# Altium footprint library True Variant.PcbLib: 36 footprints (part 2 of 3)
Each footprint in its own frame and in the unit in brackets; x right, y up, seen from the top. Pads: shape width x height; smd on the part's side, far side on the other; paste and mask are expansions set on the pad; w line width, h text height; cw(c..) or ccw(c..) is an arc to the next point about the centre after c.
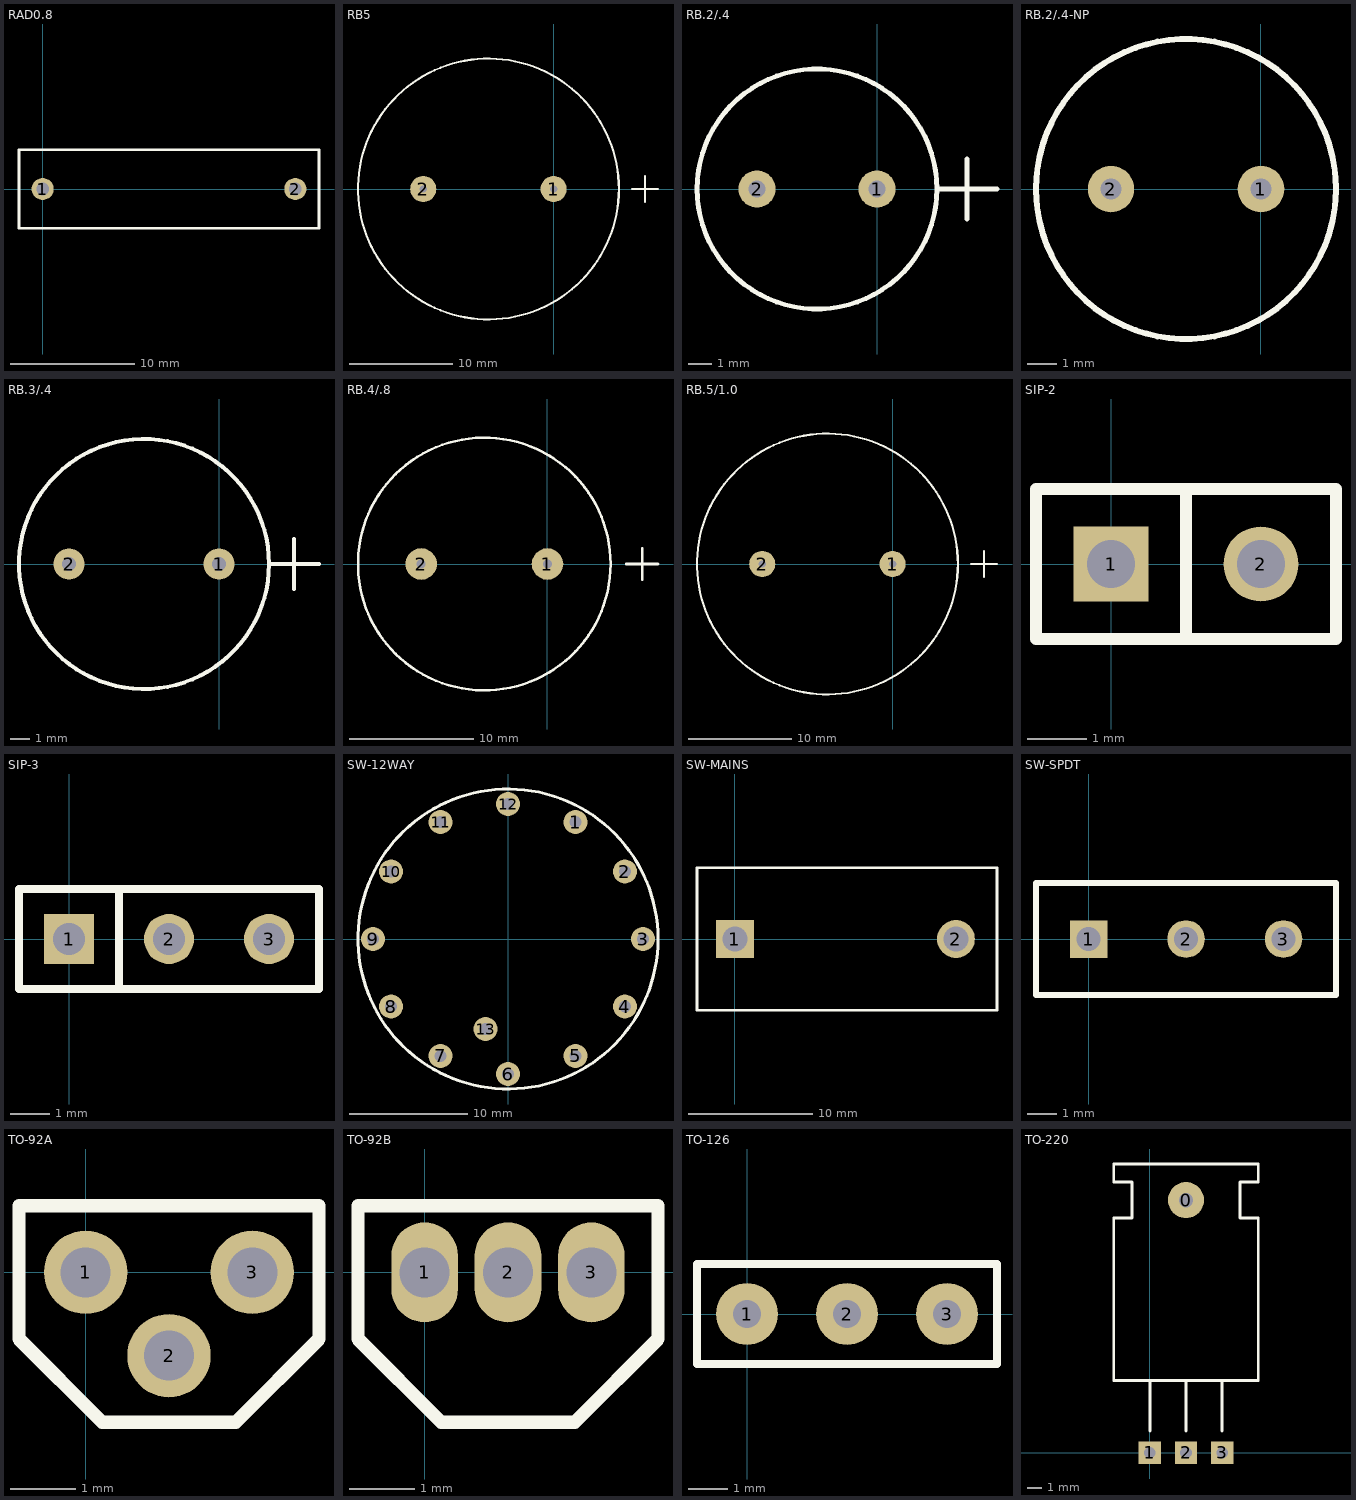
[diagram p1: the footprints below, top view; thin cyan lines are the x and y axes]

## RAD0.8 [mil]
pads (2):
  round 70 hole 40: 1(0,0) 2(800,0)
TopOverlay:
  lines w8: -75,-125 -75,125 875,125 875,-125 -75,-125

## RB5 [mil]
pads (2):
  round 100 hole 28: 1(0,0) 2(-500,0)
TopOverlay:
  circle w8: c-250,0 r500
  lines w8: 300,0 400,0 ; 350,-50 350,50
3D body: height 850, standoff 50, extent -749.99,-499.86 250.01,499.87

## RB.2/.4 [mil]
pads (2):
  round 62 hole 28: 1(0,0) 2(-200,0)
TopOverlay:
  circle w8: c-100,0 r200
  lines w8: 100,0 200,0 ; 150,-50 150,50

## RB.2/.4-NP [mil]
pads (2):
  round 62 hole 28: 1(0,0) 2(-200,0)
TopOverlay:
  circle w8: c-100,0 r200

## RB.3/.4 [mil]
pads (2):
  round 62 hole 28: 1(0,0) 2(-300,0)
TopOverlay:
  circle w8: c-150,0 r250
  lines w8: 100,0 200,0 ; 150,-50 150,50

## RB.4/.8 [mil]
pads (2):
  round 100 hole 28: 1(0,0) 2(-400,0)
TopOverlay:
  circle w8: c-200,0 r400
  lines w8: 250,0 350,0 ; 300,-50 300,50
3D body: height 850, standoff 50, extent -596.84,-399.2 200,399.22

## RB.5/1.0 [mil]
pads (2):
  round 100 hole 28: 1(0,0) 2(-500,0)
TopOverlay:
  circle w8: c-250,0 r500
  lines w8: 300,0 400,0 ; 350,-50 350,50
3D body: height 850, standoff 50, extent -749.98,-499.98 249.98,499.98

## SIP-2 [mil]
pads (2):
  rect 50x50 hole 32: 1(0,0)
  round 50 hole 32: 2(100,0)
TopOverlay:
  lines w8: 50,-50 50,50 ; -50,-50 150,-50 150,50 -50,50 -50,-50

## SIP-3 [mil]
pads (3):
  rect 50x50 hole 32: 1(0,0)
  round 50 hole 32: 2(100,0) 3(200,0)
TopOverlay:
  lines w8: 50,-50 50,50 ; -50,-50 -50,50 250,50 250,-50 -50,-50

## SW-12WAY [mil]
pads (13):
  round 80 hole 40: 1(225,389.71) 2(389.71,225) 3(450,0) 4(389.71,-225) 5(225,-389.71) 6(0,-450) 7(-225,-389.71) 8(-389.71,-225) 9(-450,0) 10(-389.71,225) 11(-225,389.71) 12(0,450) 13(-75,-300)
TopOverlay:
  circle w10: c0,0 r500

## SW-MAINS [mil]
pads (2):
  rect 120x120 hole 80: 1(0,0)
  round 120 hole 80: 2(700,0)
TopOverlay:
  lines w8: -120,-225 -120,225 830,225 830,-225 -120,-225

## SW-SPDT [mil]
pads (3):
  rect 50x50 hole 32: 1(0,0)
  round 50 hole 32: 2(130,0) 3(260,0)
TopOverlay:
  lines w8: -70,-75 -70,75 330,75 330,-75 -70,-75

## TO-92A [mil]
pads (3):
  round 50 hole 30: 1(0,0) 2(50,-50) 3(100,0)
TopOverlay:
  lines w8: -40,-40 -40,40 140,40 140,-40 90,-90 10,-90 -40,-40

## TO-92B [mil]
pads (3):
  oval 40x60 hole 30: 1(0,0) 2(50,0) 3(100,0)
TopOverlay:
  lines w8: -40,-40 -40,40 140,40 140,-40 90,-90 10,-90 -40,-40

## TO-126 [mil]
pads (3):
  round 62 hole 28: 1(0,0) 2(100,0) 3(200,0)
TopOverlay:
  lines w8: -50,-50 -50,50 250,50 250,-50 -50,-50

## TO-220 [mil]
pads (4):
  round 100 hole 40: 0(100,700)
  rect 62x62 hole 32: 1(0,0) 2(100,0) 3(200,0)
TopOverlay:
  lines w8: 0,60 0,200 ; 100,60 100,200 ; 200,60 200,200 ; -100,200 -100,650 -50,650 -50,750 -100,750 -100,800 300,800 300,750 250,750 250,650 300,650 300,200 -100,200